# EAGLE library part AD7822 (library adcLib)
ANALOG DEVICES
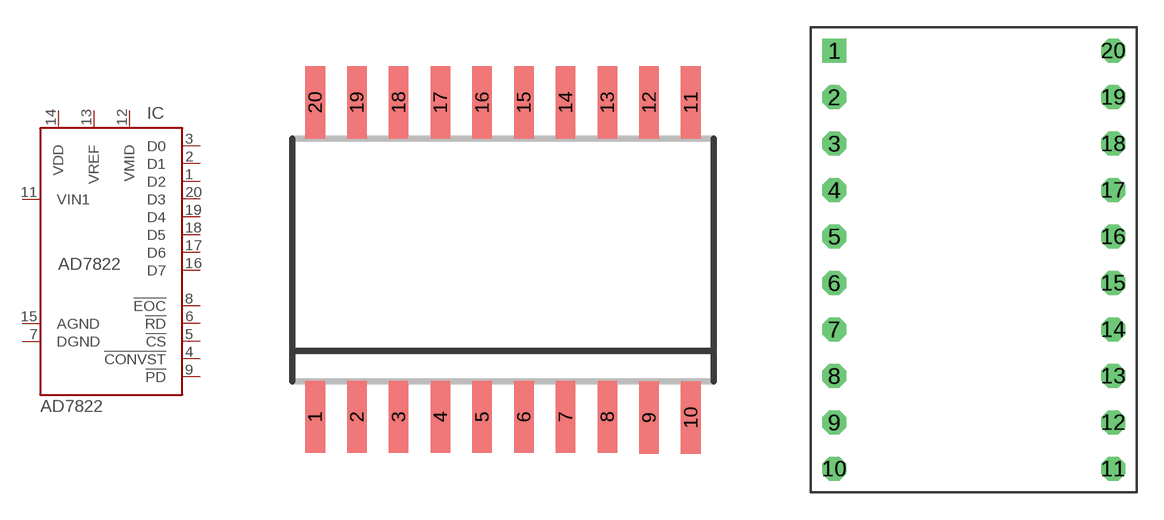
[diagram p1: symbol with the pads of SOIC20R; footprints SOIC20R, 20_SOIC_DIP]

Designator prefix IC

## AD7822  [SOIC20R]
1  D2  hiz
2  D1  hiz
3  D0  hiz
4  !CONVST  in
5  !CS  in
6  !RD  in
7  DGND  pwr
8  !EOC  out
9  !PD  in
11  VIN1  in
12  VMID  in
13  VREF  out
14  VDD  pwr
15  AGND  pwr
16  D7  hiz
17  D6  hiz
18  D5  hiz
19  D4  hiz
20  D3  hiz

## AD7822PDIP  [20_SOIC_DIP]
Pads as for SOIC20R

## Footprint SOIC20R (pad centres in mm)
20-LeadStandard Small Outline Package SOIC Wide Body (R-20) Source: http://www.analog.com/static/imported-files/data_sheets/AD811.pdf
smd 0.6 x 2.2: 1 -5.715,-4.775; 2 -4.445,-4.775; 3 -3.175,-4.775; 4 -1.905,-4.775; 5 -0.635,-4.775; 6 0.635,-4.775; 7 1.905,-4.775; 8 3.175,-4.775; 9 4.445,-4.8; 10 5.715,-4.8; 11 5.715,4.8; 12 4.445,4.8; 13 3.175,4.8; 14 1.905,4.8; 15 0.635,4.8; 16 -0.635,4.8; 17 -1.905,4.8; 18 -3.175,4.8; 19 -4.445,4.8; 20 -5.715,4.8

## Footprint 20_SOIC_DIP (pad centres in mm)
drill 0.8 square: 1 -7.62,11.43
drill 0.8 octagon: 2 -7.62,8.89; 3 -7.62,6.35; 4 -7.62,3.81; 5 -7.62,1.27; 6 -7.62,-1.27; 7 -7.62,-3.81; 8 -7.62,-6.35; 9 -7.62,-8.89; 10 -7.62,-11.43; 11 7.62,-11.43; 12 7.62,-8.89; 13 7.62,-6.35; 14 7.62,-3.81; 15 7.62,-1.27; 16 7.62,1.27; 17 7.62,3.81; 18 7.62,6.35; 19 7.62,8.89; 20 7.62,11.43